# Altium footprint library CN_HARTING_918506X324.PcbLib: 1 footprints
Each footprint in its own frame and in the unit in brackets; x right, y up, seen from the top. Pads: shape width x height; smd on the part's side, far side on the other; paste and mask are expansions set on the pad; w line width, h text height; cw(c..) or ccw(c..) is an arc to the next point about the centre after c.
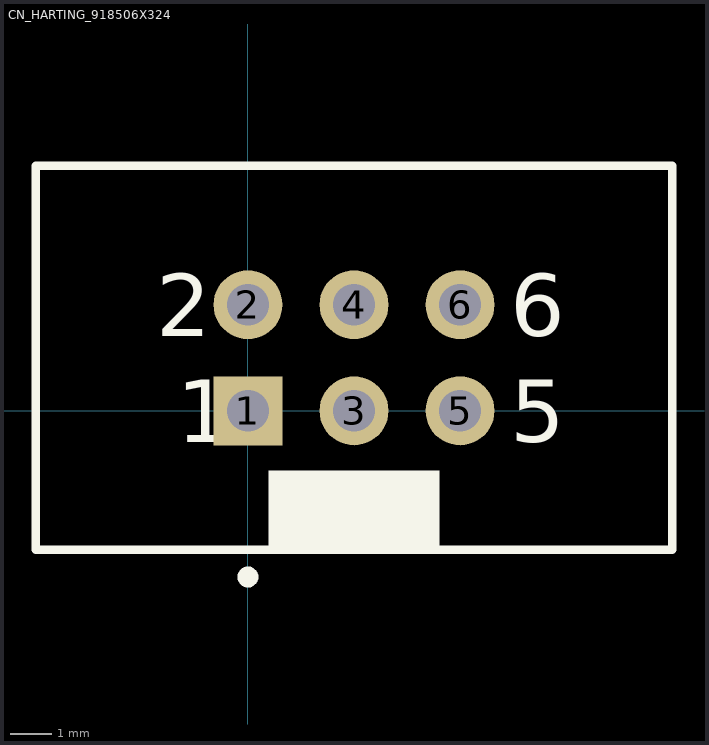
[diagram p0: the footprint, top view; thin cyan lines are the x and y axes]

## CN_HARTING_918506X324 [mm] "Connector; IDC, Low Profile Male Header, Thru-Hole; 6 Position; Vertical; Pitch 2.54 mm; Body 15.24 x 9.2 x 9.45 mm (LxWxH)"
height 9.45
pads (6):
  rect 1.65x1.65 hole 1: 1(0,0)
  round 1.65 hole 1: 2(0,2.54) 3(2.54,0) 4(2.54,2.54) 5(5.08,0) 6(5.08,2.54)
Top Overlay:
  circle w0.25: c0,-3.98 r0.125
  rectangle: 0.49,-3.33 4.59,-1.43
  lines w0.2: -5.08,-3.33 10.16,-3.33 10.16,5.87 -5.08,5.87 -5.08,-3.33
  text "5" at 6.28,-0.75 h1.5
  text "6" at 6.28,1.79 h1.5
  text "1" at -1.7,-0.75 h1.5
  text "2" at -2.2,1.79 h1.5
3D body: height 9.45, standoff -3.2, extent -5.08,-3.18 10.16,6.02